# Altium schematic symbol library usethis_BlackPill_1.SchLib: 1 symbol
Pins are listed as number, name and electrical type; pins without a type are passive.

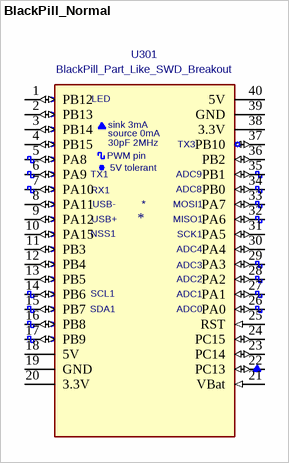
[diagram p0: symbol BlackPill_Normal]

## BlackPill_Normal
designator *  value BlackPill_Part_Like_SWD_Breakout  Reference: U301
STM32 Blue Pill ; KLC compliant; ki_keywords: module black pill STM32; Footprint: STM32 Eval Boards:Blackpill STM32F401CCU6; Description_: STM32 Blue Pill ; KLC compliant
pins: 1 PB12 (io), 2 PB13 (io), 3 PB14 (io), 4 PB15 (io), 5 PA8 (io), 6 PA9 (io), 7 PA10 (io), 8 PA11 (io), 9 PA12 (io), 10 PA15 (io), 11 PB3 (io), 12 PB4 (io), 13 PB5 (io), 14 PB6 (io), 15 PB7 (io), 16 PB8 (io), 17 PB9 (io), 18 5V (power), 19 GND (power), 20 3.3V (power), 21 VBat (in), 22 PC13 (io), 23 PC14 (io), 24 PC15 (io), 25 RST (in), 26 PA0 (io), 27 PA1 (io), 28 PA2 (io), 29 PA3 (io), 30 PA4 (io), 31 PA5 (io), 32 PA6 (io), 33 PA7 (io), 34 PB0 (io), 35 PB1 (io), 36 PB2 (io), 37 PB10 (io), 38 3.3V (power), 39 GND (power), 40 5V (power)
text: LED; sink 3mA; source 0mA; 30pF 2MHz; TX3; PWM pin; 5V tolerant; TX1; ADC9; RX1; ADC8; USB-; MOSI1; USB+; MISO1; NSS1; SCK1; ADC4; ADC3; ADC2; SCL1; ADC1; SDA1; ADC0